# Altium footprint library ATANY2400SC-3_v2.PcbLib: 1 footprints
Each footprint in its own frame and in the unit in brackets; x right, y up, seen from the top. Pads: shape width x height; smd on the part's side, far side on the other; paste and mask are expansions set on the pad; w line width, h text height; cw(c..) or ccw(c..) is an arc to the next point about the centre after c.
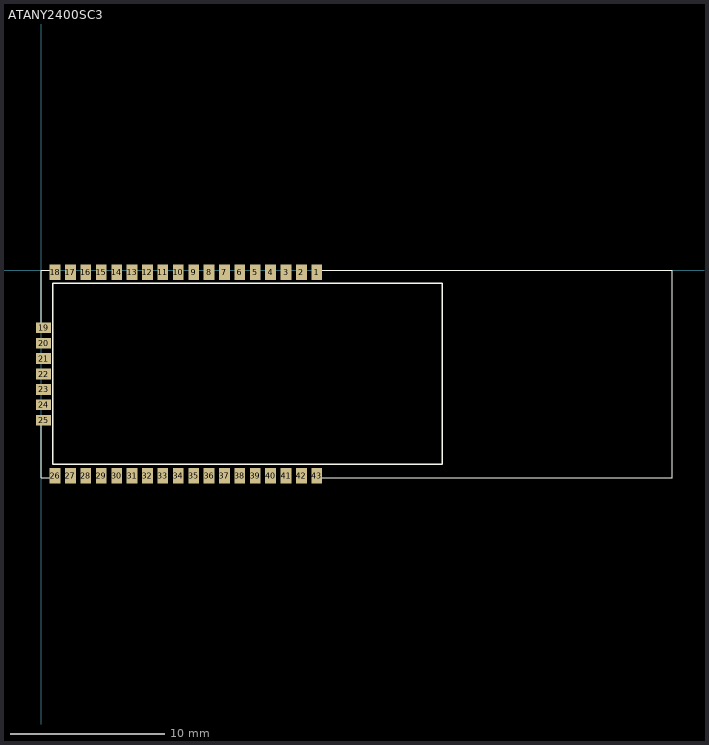
[diagram p0: the footprint, top view; thin cyan lines are the x and y axes]

## ATANY2400SC3 [mm] "ATANY2400SC3"
height 2.8
pads (43):
  rect 0.7x1 smd: 1(17.9,-0.149) 2(16.9,-0.149) 3(15.9,-0.149) 4(14.9,-0.149) 5(13.9,-0.149) 6(12.9,-0.149) 7(11.9,-0.149) 8(10.9,-0.149) 9(9.9,-0.149) 10(8.9,-0.149) 11(7.9,-0.149) 12(6.9,-0.149) 13(5.9,-0.149) 14(4.9,-0.149) 15(3.9,-0.149) 16(2.9,-0.149) 17(1.9,-0.149) 18(0.9,-0.149) 26(0.9,-13.349) 27(1.9,-13.349) 28(2.9,-13.349) 29(3.9,-13.349) 30(4.9,-13.349) 31(5.9,-13.349) 32(6.9,-13.349) 33(7.9,-13.349) 34(8.9,-13.349) 35(9.9,-13.349) 36(10.9,-13.349) 37(11.9,-13.349) 38(12.9,-13.349) 39(13.9,-13.349) 40(14.9,-13.349) 41(15.9,-13.349) 42(16.9,-13.349) 43(17.9,-13.349)
  rect 1x0.7 smd: 19(0.15,-3.749) 20(0.15,-4.749) 21(0.15,-5.749) 22(0.15,-6.749) 23(0.15,-7.749) 24(0.15,-8.749) 25(0.15,-9.749)
Top Overlay:
  lines w0.05: 0,-9.994 0,-13.499 0.655,-13.499 ; 0,-3.504 0,0.001 0.655,0.001 ; 18.145,-13.499 40.979,-13.499 40.979,0.001 18.149,0.001
  lines w0.1: 0.752,-12.601 0.752,-0.853 26.053,-0.853 26.053,-12.601 0.752,-12.601
3D body: height 3.46, standoff 0.06, extent 0.127,-13.462 40.952,-0.187